# EAGLE library part 691411710022 (library Terminal_Blocks_Connectors_rev15e)
WR-TBL Terminal block - serie 411 5,0mm - Spring clamp/Screw less - Horizontal entry - 22p Code:Con_TBL_Screwless_5.00_6914117100xxB_691411710022 <http://katalog.we-online.de/media/images/eican/Con_TBL_Screwless_5.00_6914117100xxB_pf2.jpg> Details see: http://katalog.we-online.de/en/em/691_411_710_0xx/691_411_710_022B?m Created 2014-12-22, aslant tao 2014 (C) Würth Elektronik
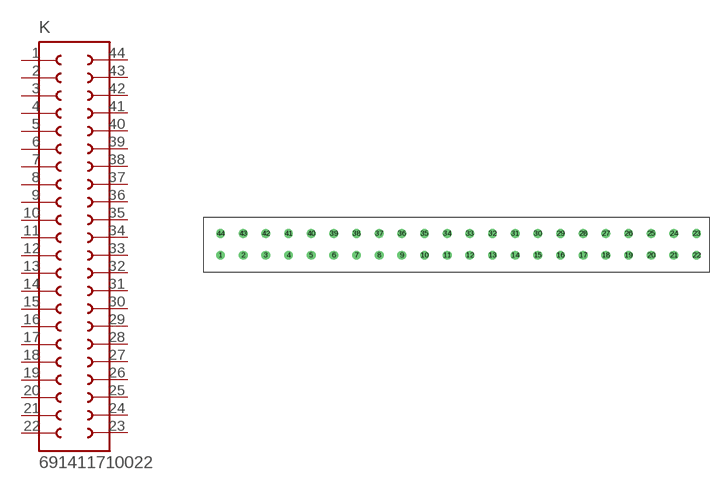
[diagram p320: symbol with the pads of 691411710022; footprint 691411710022]

Designator prefix K

## 691411710022  [691411710022]
1  1  pas
2  2  pas
3  3  pas
4  4  pas
5  5  pas
6  6  pas
7  7  pas
8  8  pas
9  9  pas
10  10  pas
11  11  pas
12  12  pas
13  13  pas
14  14  pas
15  15  pas
16  16  pas
17  17  pas
18  18  pas
19  19  pas
20  20  pas
21  21  pas
22  22  pas
23  23  pas
24  24  pas
25  25  pas
26  26  pas
27  27  pas
28  28  pas
29  29  pas
30  30  pas
31  31  pas
32  32  pas
33  33  pas
34  34  pas
35  35  pas
36  36  pas
37  37  pas
38  38  pas
39  39  pas
40  40  pas
41  41  pas
42  42  pas
43  43  pas
44  44  pas

## Footprint 691411710022 (pad centres in mm)
WR-TBL Serie 411 - 5.0mm Screwless Horizontal Entry - 2 mm2 Wires, 22 Pins
drill 1.3: 1 -5,0; 2 0,0; 3 5,0; 4 10,0; 5 15,0; 6 20,0; 7 25,0; 8 30,0; 9 35,0; 10 40,0; 11 45,0; 12 50,0; 13 55,0; 14 60,0; 15 65,0; 16 70,0; 17 75,0; 18 80,0; 19 85,0; 20 90,0; 21 95,0; 22 100,0; 23 100,4.8; 24 95,4.8; 25 90,4.8; 26 85,4.8; 27 80,4.8; 28 75,4.8; 29 70,4.8; 30 65,4.8; 31 60,4.8; 32 55,4.8; 33 50,4.8; 34 45,4.8; 35 40,4.8; 36 35,4.8; 37 30,4.8; 38 25,4.8; 39 20,4.8; 40 15,4.8; 41 10,4.8; 42 5,4.8; 43 0,4.8; 44 -5,4.8